# EAGLE library part SN74LVC14APW (library thermo)
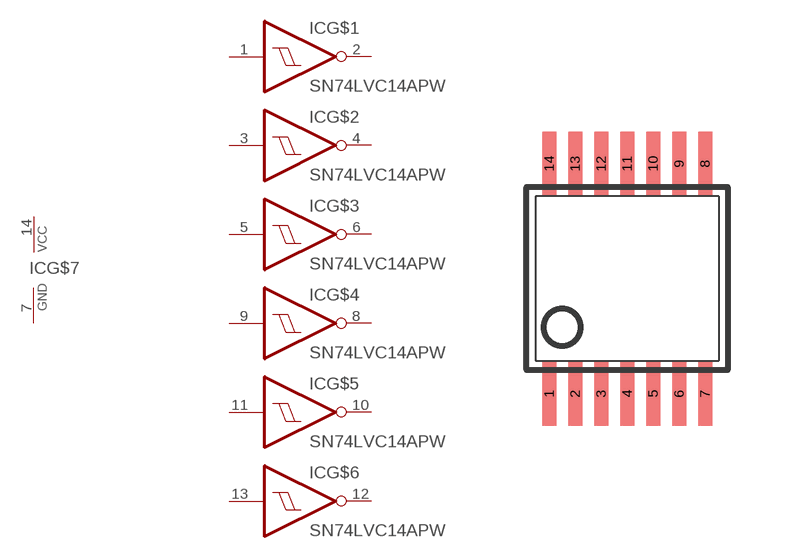
[diagram p10: symbol with the pads of TSSOP14; footprint TSSOP14]

Designator prefix IC; gates G$1=7414 G$2=7414 G$3=7414 G$4=7414 G$5=7414 G$6=7414 G$7=PWRN

## SN74LVC14APW  [TSSOP14]
1  G$1:I  in
2  G$1:O  out
3  G$2:I  in
4  G$2:O  out
5  G$3:I  in
6  G$3:O  out
7  G$7:GND  pwr
8  G$4:O  out
9  G$4:I  in
10  G$5:O  out
11  G$5:I  in
12  G$6:O  out
13  G$6:I  in
14  G$7:VCC  pwr

## Footprint TSSOP14 (pad centres in mm)
Thin Shrink Small Outline Plastic 14 MAX3223-MAX3243.pdf
smd 0.35 x 1.6: 1 -1.95,-2.875; 2 -1.3,-2.875; 3 -0.65,-2.875; 4 0,-2.875; 5 0.65,-2.875; 6 1.3,-2.875; 7 1.95,-2.875; 8 1.95,2.875; 9 1.3,2.875; 10 0.65,2.875; 11 0,2.875; 12 -0.65,2.875; 13 -1.3,2.875; 14 -1.95,2.875